# Altium footprint library LIS2MDLTR.PcbLib: 1 footprints
Each footprint in its own frame and in the unit in brackets; x right, y up, seen from the top. Pads: shape width x height; smd on the part's side, far side on the other; paste and mask are expansions set on the pad; w line width, h text height; cw(c..) or ccw(c..) is an arc to the next point about the centre after c.
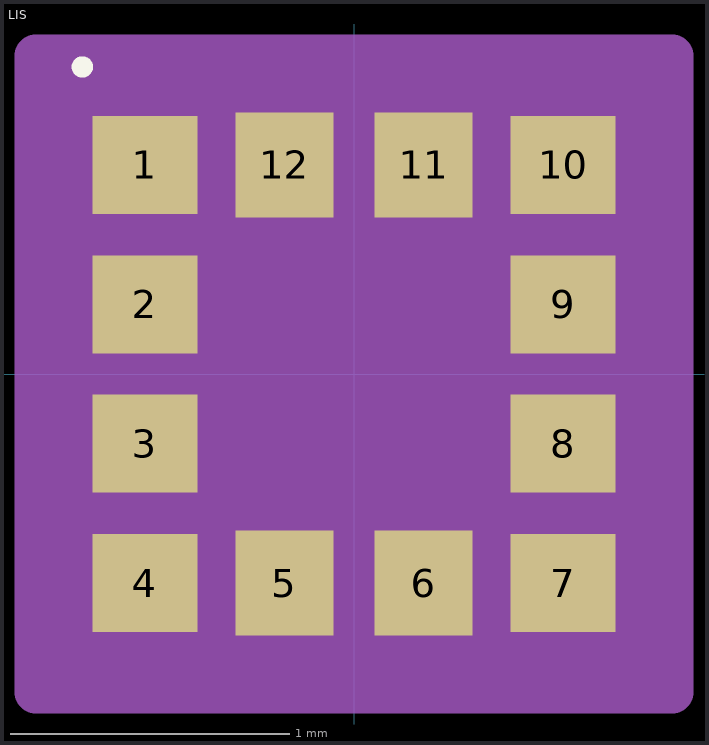
[diagram p0: the footprint, top view; thin cyan lines are the x and y axes]

## LIS [mm]
pads (12):
  rect 0.377x0.352 smd paste+0 mask+0.102: 1(-0.75,0.75) 2(-0.75,0.25) 3(-0.75,-0.25) 4(-0.75,-0.75) 7(0.75,-0.75) 8(0.75,-0.25) 9(0.75,0.25) 10(0.75,0.75)
  rect 0.352x0.377 smd paste+0 mask+0.102: 5(-0.25,-0.75) 6(0.25,-0.75) 11(0.25,0.75) 12(-0.25,0.75)
Top Overlay:
  circle w0.051: c-0.975,1.102 r0.013
Mechanical 13:
  lines w0.025: -1,-0.27 0.27,1 ; -1,-1 1,-1 1,1 -1,1 -1,-1
Mechanical 15:
  region: 1.141,-1.141 -1.141,-1.141 -1.141,1.141 1.141,1.141
  lines w0.152: -1.141,-1.141 -1.141,1.141 1.141,1.141 1.141,-1.141 -1.141,-1.141
3D body "LIS2MDL.stp": height 0.7, standoff 0, extent -1,-1 1,1